# Altium schematic symbol library CAP_1nfar_805pkg.SchLib: 1 symbol
Pins are listed as number, name and electrical type; pins without a type are passive.

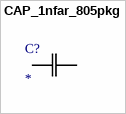
[diagram p0: symbol CAP_1nfar_805pkg]

## CAP_1nfar_805pkg
designator C?
No Description Available; Mfr_Name: Yageo
footprint CAP_CC0805_YAG
pins: 1, 2